# Altium schematic symbol library Transistor.SchLib: 9 symbols
Pins are listed as number, name and electrical type; pins without a type are passive.

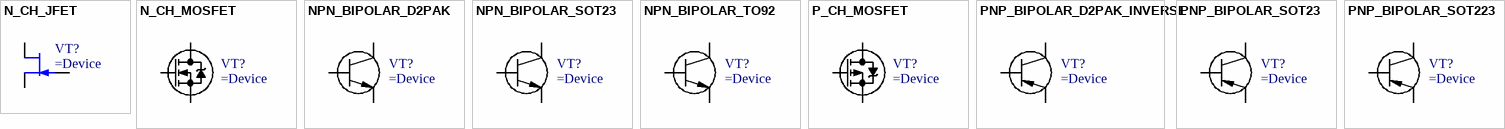
[diagram p0: symbols N_CH_JFET to PNP_BIPOLAR_SOT223]

## N_CH_JFET
designator VT?
N-Channel JFET
pins: 1 S, 2 D, 3 G

## N_CH_MOSFET
designator VT?
N-Channel Enhancement Mode FET
pins: 1 G, 2 S, 3 D

## NPN_BIPOLAR_D2PAK
designator VT?
pins: 1 B, 2 E, 3 C

## NPN_BIPOLAR_SOT23
designator VT?
pins: 1 B, 2 E, 3 C

## NPN_BIPOLAR_TO92
designator VT?
pins: 1 B, 2 C, 3 E

## P_CH_MOSFET
designator VT?
pins: 1 G, 2 S, 3 D

## PNP_BIPOLAR_D2PAK_INVERSE
designator VT?
pins: 1 E, 2 B, 3 C

## PNP_BIPOLAR_SOT23
designator VT?
pins: 1 B, 2 E, 3 C

## PNP_BIPOLAR_SOT223
designator VT?
pins: 1 B, 2 C, 3 E, 4 C